# Altium schematic symbol library SCH - POWER - SWITCHMODE - TI TPS40222_DRP_6.SchLib: 1 symbol
Pins are listed as number, name and electrical type; pins without a type are passive.

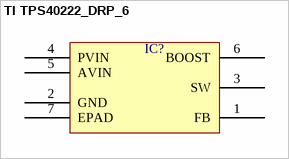
[diagram p0: symbol TI TPS40222_DRP_6]

## TI TPS40222_DRP_6
designator IC?  (value not drawn)
pins: 1 FB, 2 GND, 3 SW, 4 PVIN, 5 AVIN, 6 BOOST, 7 EPAD